# Altium schematic symbol library DDR_32Mx16.Schlib: 1 symbol
Pins are listed as number, name and electrical type; pins without a type are passive.

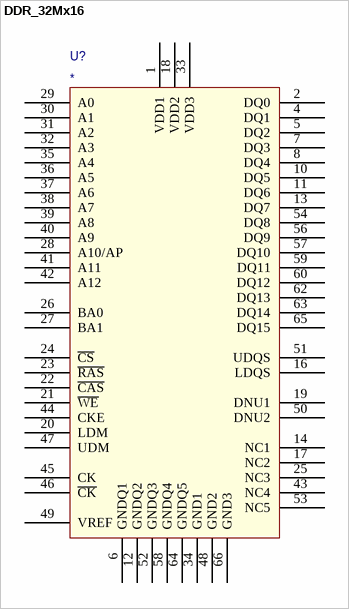
[diagram p0: symbol DDR_32Mx16]

## DDR_32Mx16
designator U?
pins: 1 VDD1, 2 DQ0, 4 DQ1, 5 DQ2, 6 GNDQ1, 7 DQ3, 8 DQ4, 10 DQ5, 11 DQ6, 12 GNDQ2, 13 DQ7, 14 NC1, 16 LDQS, 17 NC2, 18 VDD2, 19 DNU1, 20 LDM, 21 ~{WE}, 22 ~{CAS}, 23 ~{RAS}, 24 ~{CS}, 25 NC3, 26 BA0, 27 BA1, 28 A10/AP, 29 A0, 30 A1, 31 A2, 32 A3, 33 VDD3, 34 GND1, 35 A4, 36 A5, 37 A6, 38 A7, 39 A8, 40 A9, 41 A11, 42 A12, 43 NC4, 44 CKE, 45 CK, 46 ~{CK}, 47 UDM, 48 GND2, 49 VREF, 50 DNU2, 51 UDQS, 52 GNDQ3, 53 NC5, 54 DQ8, 56 DQ9, 57 DQ10, 58 GNDQ4, 59 DQ11, 60 DQ12, 62 DQ13, 63 DQ14, 64 GNDQ5, 65 DQ15, 66 GND3